# EAGLE library part USB_MINI_B (library Harp Motor H2-module v1.0)
CONN RCPT USB2.0 MINI B SMD R/A
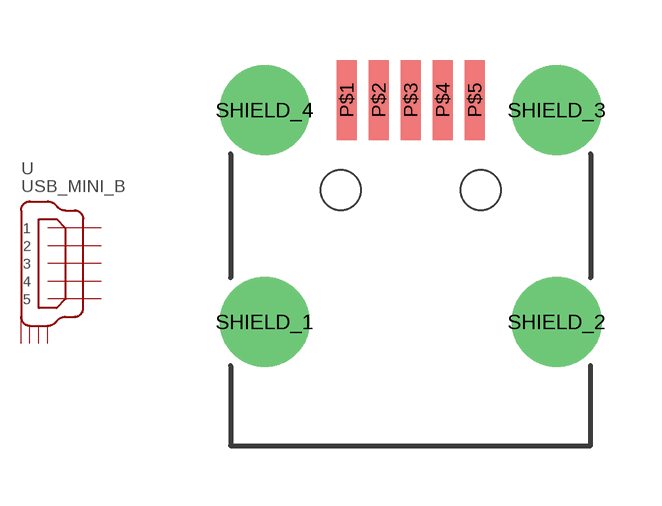
[diagram p3: symbol with the pads of 240-0002-1; footprint 240-0002-1]

Designator prefix -

## USB_MINI_B  [240-0002-1]
P$1  1
P$2  2
P$3  3
P$4  4
P$5  5
SHIELD_1  P$1
SHIELD_2  P$2
SHIELD_3  P$3
SHIELD_4  P$4

## Footprint 240-0002-1 (pad centres in mm)
smd 0.5 x 2: P$1 -1.6,8.65; P$2 -0.8,8.65; P$3 0,8.65; P$4 0.8,8.65; P$5 1.6,8.65
drill 1.5: SHIELD_1 -3.65,3.1; SHIELD_2 3.65,3.1; SHIELD_3 3.65,8.4; SHIELD_4 -3.65,8.4
hole 1 at -1.75,6.4
hole 1 at 1.75,6.4